# EAGLE library part MC74HC08ADG (library PP_DigitalIC)
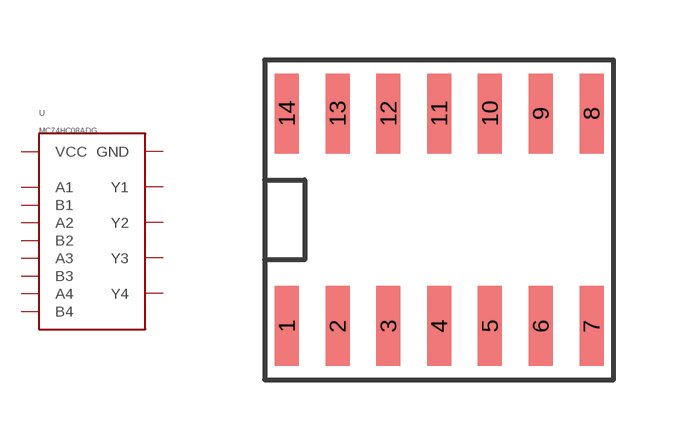
[diagram p19: symbol with the pads of SOIC-14; footprint SOIC-14]

Designator prefix U

## MC74HC08ADGSOIC-14  [SOIC-14]
1  A1
2  B1
3  Y1
4  A2
5  B2
6  Y2
7  GND
8  Y3
9  A3
10  B3
11  Y4
12  A4
13  B4
14  VCC

## Footprint SOIC-14 (pad centres in mm)
smd 0.6 x 2: 1 -4.445,-2.66; 2 -3.175,-2.66; 3 -1.905,-2.66; 4 -0.635,-2.66; 5 0.635,-2.66; 6 1.905,-2.66; 7 3.175,-2.66; 8 3.175,2.66; 9 1.905,2.66; 10 0.635,2.66; 11 -0.635,2.66; 12 -1.905,2.66; 13 -3.175,2.66; 14 -4.445,2.66